# Altium schematic symbol library ESP32-HWE-Dev.SchLib: 10 symbols
Pins are listed as number, name and electrical type; pins without a type are passive.

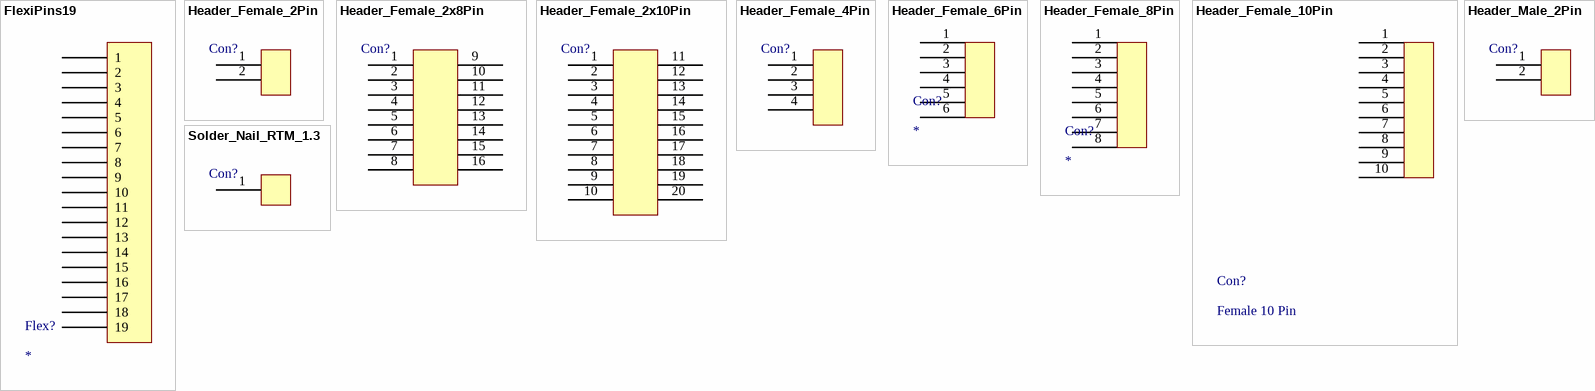
[diagram p0: symbols FlexiPins19 to Solder_Nail_RTM_1.3]

## FlexiPins19
designator Flex?
footprint FlexiPins19
pins: 1, 2, 3, 4, 5, 6, 7, 8, 9, 10, 11, 12, 13, 14, 15, 16, 17, 18, 19

## Header_Female_2Pin
designator Con?, comment Female 2 Pin  (value not drawn)
footprint Header_Female_2Pin
pins: 1, 2

## Header_Female_2x8Pin
designator Con?, comment Female 2x8 Pin  (value not drawn)
footprint Header_Female_2x8Pin
pins: 1, 2, 3, 4, 5, 6, 7, 8, 9, 10, 11, 12, 13, 14, 15, 16

## Header_Female_2x10Pin
designator Con?, comment Female 2x10 Pin  (value not drawn)
footprint Header_Female_2x10Pin
pins: 1, 2, 3, 4, 5, 6, 7, 8, 9, 10, 11, 12, 13, 14, 15, 16, 17, 18, 19, 20

## Header_Female_4Pin
designator Con?, comment Female 4 Pin  (value not drawn)
footprint Header_Female_4Pin
pins: 1, 2, 3, 4

## Header_Female_6Pin
designator Con?
footprint Header_Female_6Pin
pins: 1, 2, 3, 4, 5, 6

## Header_Female_8Pin
designator Con?
footprint Header_Female_8Pin
pins: 1, 2, 3, 4, 5, 6, 7, 8

## Header_Female_10Pin
designator Con?, comment Female 10 Pin
footprint Header_Female_10Pin
pins: 1, 2, 3, 4, 5, 6, 7, 8, 9, 10

## Header_Male_2Pin
designator Con?, comment Male 2 Pin  (value not drawn)
footprint Header_Male_2Pin
pins: 1, 2

## Solder_Nail_RTM_1.3
designator Con?, comment Solder Nail RTM 1.3  (value not drawn)
footprint Solder_Nail_RTM_1.3
pins: 1